# Altium footprint library LibreriaComponentes.PcbLib: 38 footprints (part 1 of 3)
Each footprint in its own frame and in the unit in brackets; x right, y up, seen from the top. Pads: shape width x height; smd on the part's side, far side on the other; paste and mask are expansions set on the pad; w line width, h text height; cw(c..) or ccw(c..) is an arc to the next point about the centre after c.
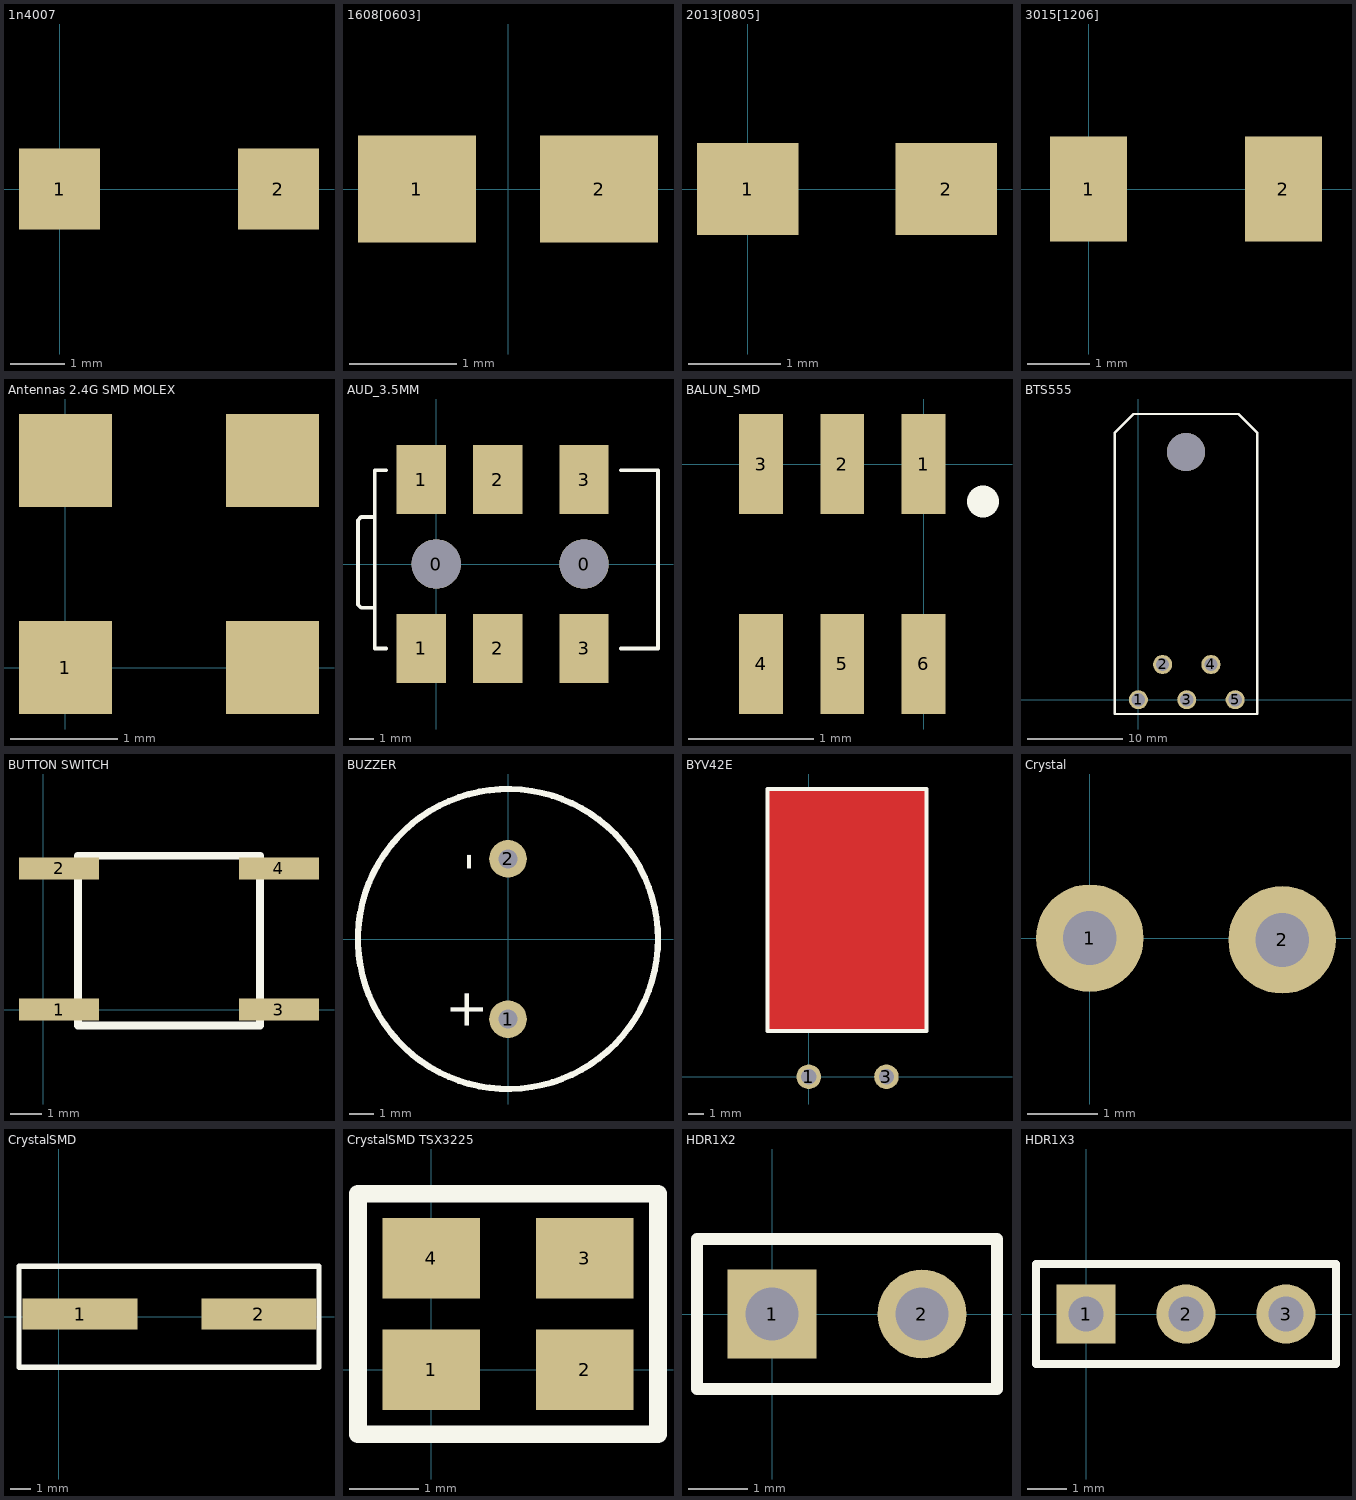
[diagram p0: the footprints below, top view; thin cyan lines are the x and y axes]

## 1n4007 [mm] "Chip Capacitor; Body 1.6 x 0.8 mm (LxW typ)"
height 1.35
pads (2):
  rect 1.5x1.5 smd: 1(0,0) 2(4.05,0)
3D body: height 2, standoff 0, extent -0.3,-0.75 4.4,0.75

## 1608[0603] [mm] "Chip Capacitor; Body 1.6 x 0.8 mm (LxW typ)"
height 1.35
pads (2):
  rect 1.1x1 smd: 1(-0.85,0) 2(0.85,0)
3D body: height 1.3, standoff 0, extent -1,-0.5 0.9,0.5

## 2013[0805] [mm] "Chip Capacitor; Body 2.0 x 1.3 mm (LxW typ)"
height 1.35
pads (2):
  rect 1.1x1 smd: 1(0,0) 2(2.15,0)
3D body: height 1.3, standoff 0, extent 0,-0.5 2.15,0.5

## 3015[1206] [mm] "Chip Capacitor; Body 3.0 x 1.5 mm (LxW typ)"
height 1.35
pads (2):
  rect 1.25x1.7 smd: 1(0,0) 2(3.15,0)
3D body: height 1.3, standoff 0, extent 0,-0.9 3.15,0.9

## Antennas 2.4G SMD MOLEX [mm]
pads (4):
  rect 0.87x0.87 smd mask+0.335: 1(0,0) ""(0,1.94) ""(1.94,0) ""(1.94,1.94)

## AUD_3.5MM [mm]
pads (8):
  round 2 hole 2: 0(0,0) 0(6,0)
  rect 2x2.8 smd: 1(-0.613,-3.429) 1(-0.613,3.429) 2(2.5,-3.429) 2(2.5,3.429) 3(6,-3.429) 3(6,3.429)
Top Overlay:
  lines w0.15: -2.5,-1.778 -3.048,-1.778 -3.175,-1.651 -3.175,1.778 -3.048,1.905 -2.5,1.905 ; -2.032,-3.429 -2.5,-3.429 -2.5,3.81 -2.032,3.81 ; 7.493,-3.429 9,-3.429 9,3.81 7.493,3.81

## BALUN_SMD [mm] "Harmonic Filter-Balun; Body 2.0 x 1.25 mm"
height 1.35
pads (6):
  rect 0.35x0.8 smd: 1(0,0) 2(-0.65,0) 3(-1.3,0) 4(-1.3,-1.6) 5(-0.65,-1.6) 6(0,-1.6)
Top Overlay:
  lines w0.254: 0.475,-0.3 0.475,-0.3
3D body: height 0.8, standoff 0, extent -1.65,-1.425 0.35,-0.175

## BTS555 [mm]
pads (6):
  round 2 hole 1.4: 1(0,0) 2(2.54,3.7) 3(5.08,0) 4(7.62,3.7) 5(10.16,0)
  round 4 hole 4: ""(5,26)
Top Overlay:
  lines w0.254: -2.5,-1.5 12.5,-1.5 12.5,28 10.5,30 -0.5,30 -2.5,28 -2.5,-1.5

## BUTTON SWITCH [mm]
pads (4):
  rect 2.55x0.7 smd: 1(0.5,0) 2(0.5,4.5) 3(7.5,0) 4(7.5,4.5)
Top Overlay:
  lines w0.254: 1.1,-0.5 1.1,4.9 6.9,4.9 6.9,-0.5 1.1,-0.5

## BUZZER [mil]
pads (2):
  round 60 hole 30: 1(0,-127.95) 2(0,127.95)
Top Overlay:
  circle w10: c0,0 r239.48
  text "-" at -39.37,108.27 h60
  text "+" at -39.37,-147.64 h60

## BYV42E [mm]
pads (2):
  round 1.6 hole 1: 1(0,0) 3(5.08,0)
Top Layer:
  rectangle: -2.7,3 7.7,18.8
Top Overlay:
  lines w0.254: -2.7,3 7.7,3 7.7,18.8 -2.7,18.8 -2.7,3

## Crystal [mil]
pads (2):
  round 60 hole 30: 1(0,0) 2(107.28,-0.98)

## CrystalSMD [mm]
pads (2):
  rect 5.5x1.5 smd: 1(1.016,0.127) 2(9.566,0.127)
Top Overlay:
  lines w0.254: -1.905,-2.417 -1.905,2.413 12.446,2.413 12.446,-2.417 ; -1.905,-2.413 12.446,-2.413

## CrystalSMD TSX3225 [mm]
pads (4):
  rect 1.4x1.15 smd: 1(0,0) 2(2.2,0) 3(2.2,1.6) 4(0,1.6)
Top Overlay:
  lines w0.254: -1.05,-0.925 -1.05,2.525 3.25,2.525 3.25,-0.925 -1.05,-0.925

## HDR1X2 [mm] "Connector; Header; 2 Position"
pads (2):
  rect 1.5x1.5 hole 0.9: 1(0,0)
  round 1.5 hole 0.9: 2(2.54,0)
Top Overlay:
  lines w0.2: -1.27,-1.27 -1.27,1.27 3.81,1.27 3.81,-1.27 -1.27,-1.27

## HDR1X3 [mm] "Connector; Header; 3 Position"
pads (3):
  rect 1.5x1.5 hole 0.9: 1(0,0)
  round 1.5 hole 0.9: 2(2.54,0) 3(5.08,0)
Top Overlay:
  lines w0.2: -1.27,-1.27 -1.27,1.27 6.35,1.27 6.35,-1.27 -1.27,-1.27